# EAGLE library part 632121300001 (library InputOutputIO (rev19a))
USB3.1 TYPE A RECEPTACLE - HORIZONTAL THT - POWER DELIVERY =>ConUSB31 632121300001 Characteristics INSULATOR:PA9T FLAMMABILITY RATING: UL94-V0 COLOR: BLUE CONTACT MATERIAL: COPPER ALLOY CONTACT PLATING: GOLD OVER Pd-Ni CONTACT AREA: 30μ’’ Pd-Ni+2μ’’ Gold SOLDER TAIL AREA: 100 to 200 μ’’ Tin QUALITY CLASS: 5 000 MATING CYCLES OPERATING TEMPERATURE:-20°C UP TO +85°C COMPLIANCE: LEAD FREE AND ROHS ELECTRICAL CURRENT RATING: 5 A MAX WORKING VOLTAGE: 20 VDC MAX DIELECTRIC WITHSTANDING VOLTAGE: 100 VAC/MIN INSULATION RESISTANCE: > 100 MΩ CONTACT RESISTANCE: - PIN 1 & PIN 4: 30 mΩ MAX - OTHER PINS: 50 mΩ MAX <http://katalog.we-online.de/media/images/v2/Family_WR-COM_632121300001_4C.jpg> Details see: http://katalog.we-online.de/en/em/COM_3_1_THT_TYPE_A_RECEPTACLE_HORIZONTAL/632121300001? 2015 (C) Wurth Elektronik
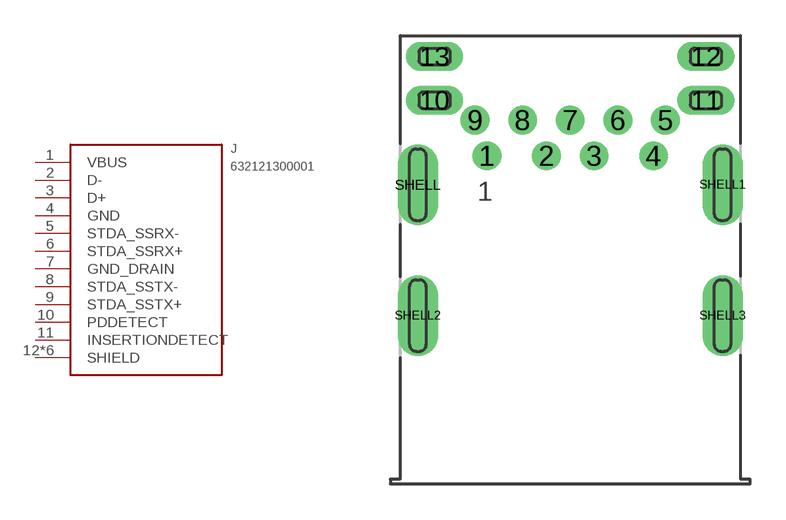
[diagram p168: symbol with the pads of 632121300001; footprint 632121300001]

Designator prefix J

## 632121300001  [632121300001]
1  VBUS
2  D-
3  D+
4  GND
5  STDA_SSRX-
6  STDA_SSRX+
7  GND_DRAIN
8  STDA_SSTX-
9  STDA_SSTX+
10  PDDETECT
11  INSERTIONDETECT
12  SHIELD
13  SHIELD
SHELL  SHIELD
SHELL1  SHIELD
SHELL2  SHIELD
SHELL3  SHIELD

## Footprint 632121300001 (pad centres in mm)
drill 0.7: 1 -3.5,1.21; 2 -1,1.21; 3 1,1.21; 4 3.5,1.21; 5 4,2.71; 6 2,2.71; 7 0,2.71; 8 -2,2.71; 9 -4,2.71
drill 0.7 pad 1.1 long: 10 -5.7,3.55; 11 5.7,3.55; 12 5.7,5.39; 13 -5.7,5.39
drill 0.7 pad 1.7 long: SHELL -6.4,0; SHELL1 6.4,0; SHELL2 -6.4,-5.5; SHELL3 6.4,-5.5